# EAGLE library part KL20 (library KW2)
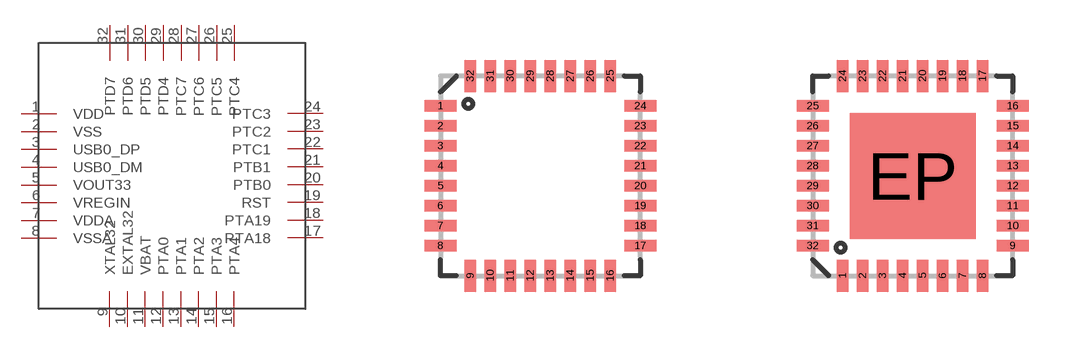
[diagram p20: symbol with the pads of QFN-32-NOPAD; footprints QFN-32-NOPAD, QFN-32]

Designator prefix U

## KL20  [QFN-32-NOPAD]
1  VDD
2  VSS
3  USB0_DP
4  USB0_DM
5  VOUT33
6  VREGIN
7  VDDA
8  VSSA
9  XTAL32
10  EXTAL32
11  VBAT
12  PTA0
13  PTA1
14  PTA2
15  PTA3
16  PTA4
17  PTA18
18  PTA19
19  RST
20  PTB0
21  PTB1
22  PTC1
23  PTC2
24  PTC3
25  PTC4
26  PTC5
27  PTC6
28  PTC7
29  PTD4
30  PTD5
31  PTD6
32  PTD7

## KL20PAD  [QFN-32]
1  VDD
2  VSS
3  USB0_DP
4  USB0_DM
5  VOUT33
6  VREGIN
7  VDDA
8  VSSA
9  XTAL32
10  EXTAL32
11  VBAT
12  PTA0
13  PTA1
14  PTA2
15  PTA3
16  PTA4
17  PTA18
18  PTA19
19  RST
20  PTB0
21  PTB1
22  PTC1
23  PTC2
24  PTC3
25  PTC4
26  PTC5
27  PTC6
28  PTC7
29  PTD4
30  PTD5
31  PTD6
32  PTD7
EP  VSS

## Footprint QFN-32-NOPAD (pad centres in mm)
QFN 32-Pin package w/ Thermal Pad ***Unproven*** Applicable Parts: TLC5940
smd 0.8 x 0.285: 1 -2.5,1.75; 2 -2.5,1.25; 3 -2.5,0.75; 4 -2.5,0.25; 5 -2.5,-0.25; 6 -2.5,-0.75; 7 -2.5,-1.25; 8 -2.5,-1.75; 17 2.5,-1.75; 18 2.5,-1.25; 19 2.5,-0.75; 20 2.5,-0.25; 21 2.5,0.25; 22 2.5,0.75; 23 2.5,1.25; 24 2.5,1.75
smd 0.285 x 0.8: 9 -1.75,-2.5; 10 -1.25,-2.5; 11 -0.75,-2.5; 12 -0.25,-2.5; 13 0.25,-2.5; 14 0.75,-2.5; 15 1.25,-2.5; 16 1.75,-2.5; 25 1.75,2.5; 26 1.25,2.5; 27 0.75,2.5; 28 0.25,2.5; 29 -0.25,2.5; 30 -0.75,2.5; 31 -1.25,2.5; 32 -1.75,2.5

## Footprint QFN-32 (pad centres in mm)
QFN 32-Pin package w/ Thermal Pad ***Unproven*** Applicable Parts: TLC5940
smd 0.285 x 0.8: 1 -1.75,-2.5; 2 -1.25,-2.5; 3 -0.75,-2.5; 4 -0.25,-2.5; 5 0.25,-2.5; 6 0.75,-2.5; 7 1.25,-2.5; 8 1.75,-2.5; 17 1.75,2.5; 18 1.25,2.5; 19 0.75,2.5; 20 0.25,2.5; 21 -0.25,2.5; 22 -0.75,2.5; 23 -1.25,2.5; 24 -1.75,2.5
smd 0.8 x 0.285: 9 2.5,-1.75; 10 2.5,-1.25; 11 2.5,-0.75; 12 2.5,-0.25; 13 2.5,0.25; 14 2.5,0.75; 15 2.5,1.25; 16 2.5,1.75; 25 -2.5,1.75; 26 -2.5,1.25; 27 -2.5,0.75; 28 -2.5,0.25; 29 -2.5,-0.25; 30 -2.5,-0.75; 31 -2.5,-1.25; 32 -2.5,-1.75
smd 3.15 x 3.15: EP 0,0